# Altium schematic symbol library Транзисторы полевые.SchLib: 28 symbols
Pins are listed as number, name and electrical type; pins without a type are passive.

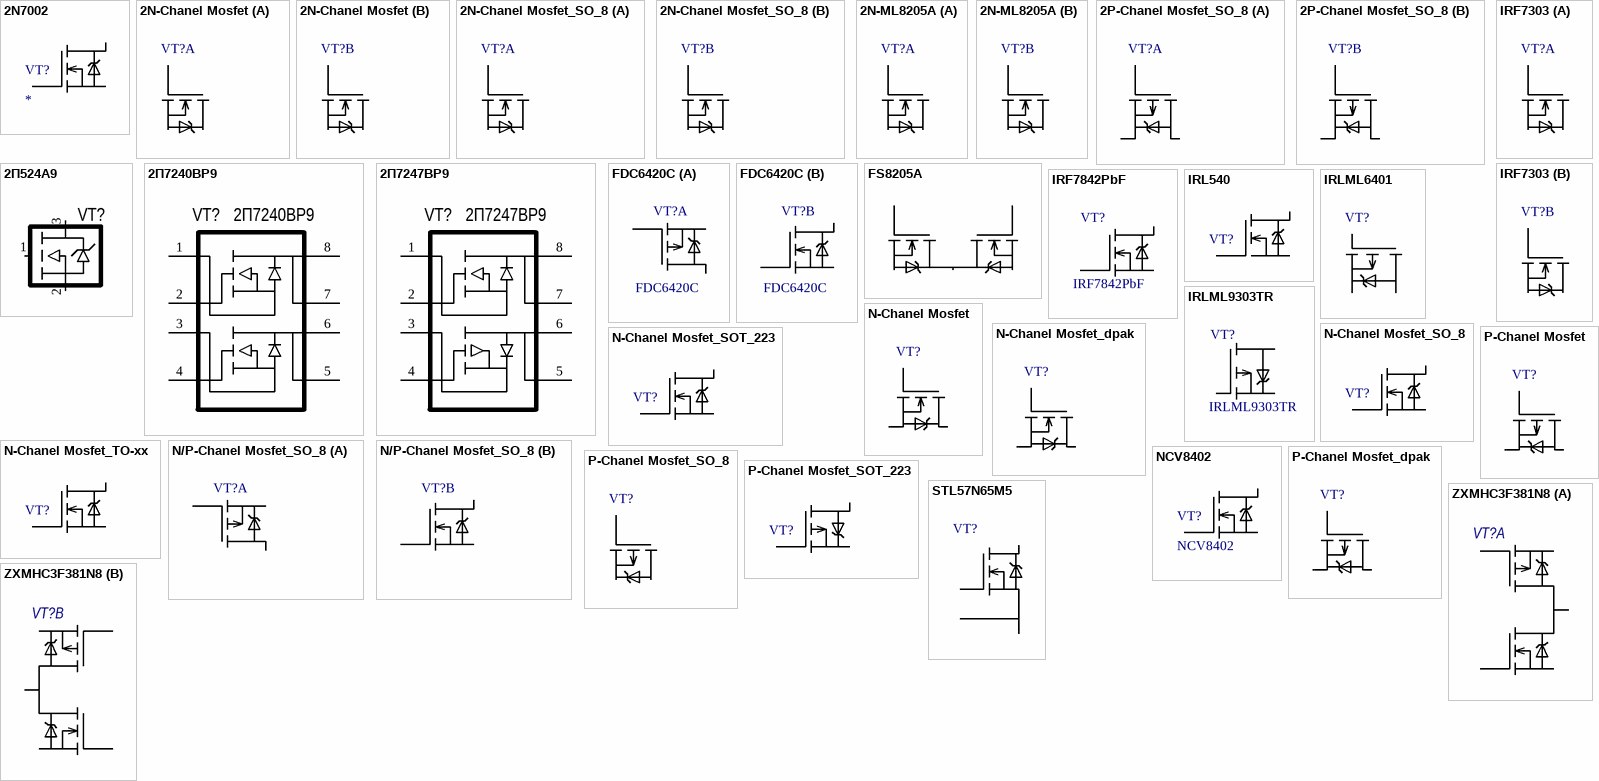
[diagram p0: symbols 2N7002 to ZXMHC3F381N8]

## 2N7002
designator VT?
footprint SOT23-3
pins: 1 G1, 2 S1, 3 D1

## 2N-Chanel Mosfet
designator VT?  (value not drawn)
footprint SOIC-8
footprint SO-8
part A pins: 1 S1, 2 G1, 7 D1
part B pins: 3 S2, 4 G2, 5 D2

## 2N-Chanel Mosfet_SO_8
designator VT?  (value not drawn)
footprint SOIC-8
footprint SO-8
part A pins: 1 S1, 2 G1, 7,8 D1
part B pins: 3 S2, 4 G2, 5,6 D2

## 2N-ML8205A
designator VT?  (value not drawn)
footprint SOIC-8
footprint SO-8
part A pins: 1 D1, 2,3 S1, 4 G1
part B pins: 5 G2, 6,7 S2, 8 D2

## 2P-Chanel Mosfet_SO_8
designator VT?
footprint SO-8
part A pins: 3 S1, 4 G1, 5,6 D1
part B pins: 1 S2, 2 G2, 7,8 D2

## 2П524А9
designator VT?  (value not drawn)
footprint КТ-99-1
pins: 1, 2, 3

## 2П7240ВР9
designator VT?
footprint SOIC-8
pins: 1, 2, 3, 4, 5, 6, 7, 8

## 2П7247ВР9
designator VT?
footprint SOIC-8
pins: 1, 2, 3, 4, 5, 6, 7, 8

## FDC6420C
designator VT?
footprint SOT23-6 (SOT23, 6-Leads, Body 2,90x2,45mm, Pitch 0,95mm, IPC Medium Density)
part A pins: 2 S1, 3 G1, 4 D1
part B pins: 1 G1, 5 S1, 6 D1

## FS8205A
designator VT?  (value not drawn)
pins: 1,8 D12, 2,3 S1, 4 G1, 5 G2, 6,7 S2

## IRF7303
designator VT?  (value not drawn)
footprint SOIC-8 twinkOut (Только для мосфет)
part A pins: 1 S1, 2 G1, 7 D1
part B pins: 3 S2, 4 G2, 5 D2

## IRF7842PbF
designator VT?
footprint SOIC-8 (Только для мосфет)
pins: 1,2,3 S1, 4 G1, 5,6,7,5 D1

## IRL540
designator VT?, comment IRL540NPBF  (value not drawn)
IRL540; Manufacturer: International Rectifier; Manufacturer Part Number: IRL540NPBF
footprint TO-220
pins: 1 G, 2 D, 3 S

## IRLML6401
designator VT?  (value not drawn)
footprint SOT23-3
pins: 1 G1, 2 S1, 3 D1

## IRLML9303TR
designator VT?
footprint SOT23-3
pins: 1 G1, 2 S1, 3 D1

## N-Chanel Mosfet
designator VT?  (value not drawn)
footprint SOT23-3
pins: 1 G, 2 S, 3 D

## N-Chanel Mosfet_dpak
designator VT?  (value not drawn)
footprint SOT23-3
pins: 1 G, 2 D, 3 S

## N-Chanel Mosfet_SO_8
designator VT?  (value not drawn)
pins: 1,2,3 S, 4 G, 5,6,7,8 D

## N-Chanel Mosfet_SOT_223
designator VT?  (value not drawn)
pins: 1 G, 2,4 D, 3 S

## N-Chanel Mosfet_TO-xx
designator VT?  (value not drawn)
pins: 1 G, 2 D, 3 S

## N/P-Chanel Mosfet_SO_8
designator VT?
footprint SO-8
part A pins: 3 S1, 4 G1, 5,6 D1
part B pins: 1 S2, 2 G2, 7,8 D2

## NCV8402
designator VT?
footprint SOT223 (SOT223, 4-Leads, Body 6,50x7,00mm (avg), Pitch 2,30mm, IPC Medium Density)
pins: 1 G1, 2 D1, 3 S1

## P-Chanel Mosfet
designator VT?  (value not drawn)
footprint SOT23-3
pins: 1 G, 2 S, 3 D

## P-Chanel Mosfet_dpak
designator VT?  (value not drawn)
footprint SOT23-3
pins: 1 G, 2 D, 3 S

## P-Chanel Mosfet_SO_8
designator VT?  (value not drawn)
footprint SO-8
pins: 1,2,3 S, 4 G, 5,6,7,8 D

## P-Chanel Mosfet_SOT_223
designator VT?  (value not drawn)
pins: 1 G, 2,4 D, 3 S

## STL57N65M5
designator VT?  (value not drawn)
footprint SOT23-3
pins: 1 G, 2 S1, 3 D, 3,4 S2

## ZXMHC3F381N8
designator VT?  (value not drawn)
part A pins: 1 N1G, 2 P1D_N1D, 3 N1S_N2S, 7 P1S_P2S, 8 P1G
part B pins: 3 N1S_N2S, 4 P2N, 5 P2G, 6 P2D_N2D, 7 P1S_P2S